# Altium schematic symbol library Crystals.SchLib: 3 symbols
Pins are listed as number, name and electrical type; pins without a type are passive.

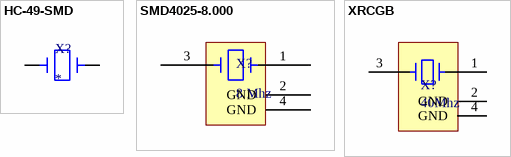
[diagram p0: symbols HC-49-SMD to XRCGB]

## HC-49-SMD
designator X?
Crystal; Value: *
footprint HC-49-SMD
pins: 1 2, 2

## SMD4025-8.000
designator X?, comment 8 Mhz
Crystal; Value: 8 Mhz
footprint SMD4025 (4 pads, 4.0x2.5x0.8m)
footprint SMD0635x11mm (SMD CRYSTAL UNITS 6*3.5*1.1mm)
pins: 1, 2 GND (power), 3, 4 GND (power)

## XRCGB
designator X?, comment 40Mhz
Murata small package crystal; Value: 40Mhz
footprint XRCGB
pins: 1, 2 GND (power), 3, 4 GND (power)